# Altium footprint library Payload lib.PcbLib: 12 footprints
Each footprint in its own frame and in the unit in brackets; x right, y up, seen from the top. Pads: shape width x height; smd on the part's side, far side on the other; paste and mask are expansions set on the pad; w line width, h text height; cw(c..) or ccw(c..) is an arc to the next point about the centre after c.
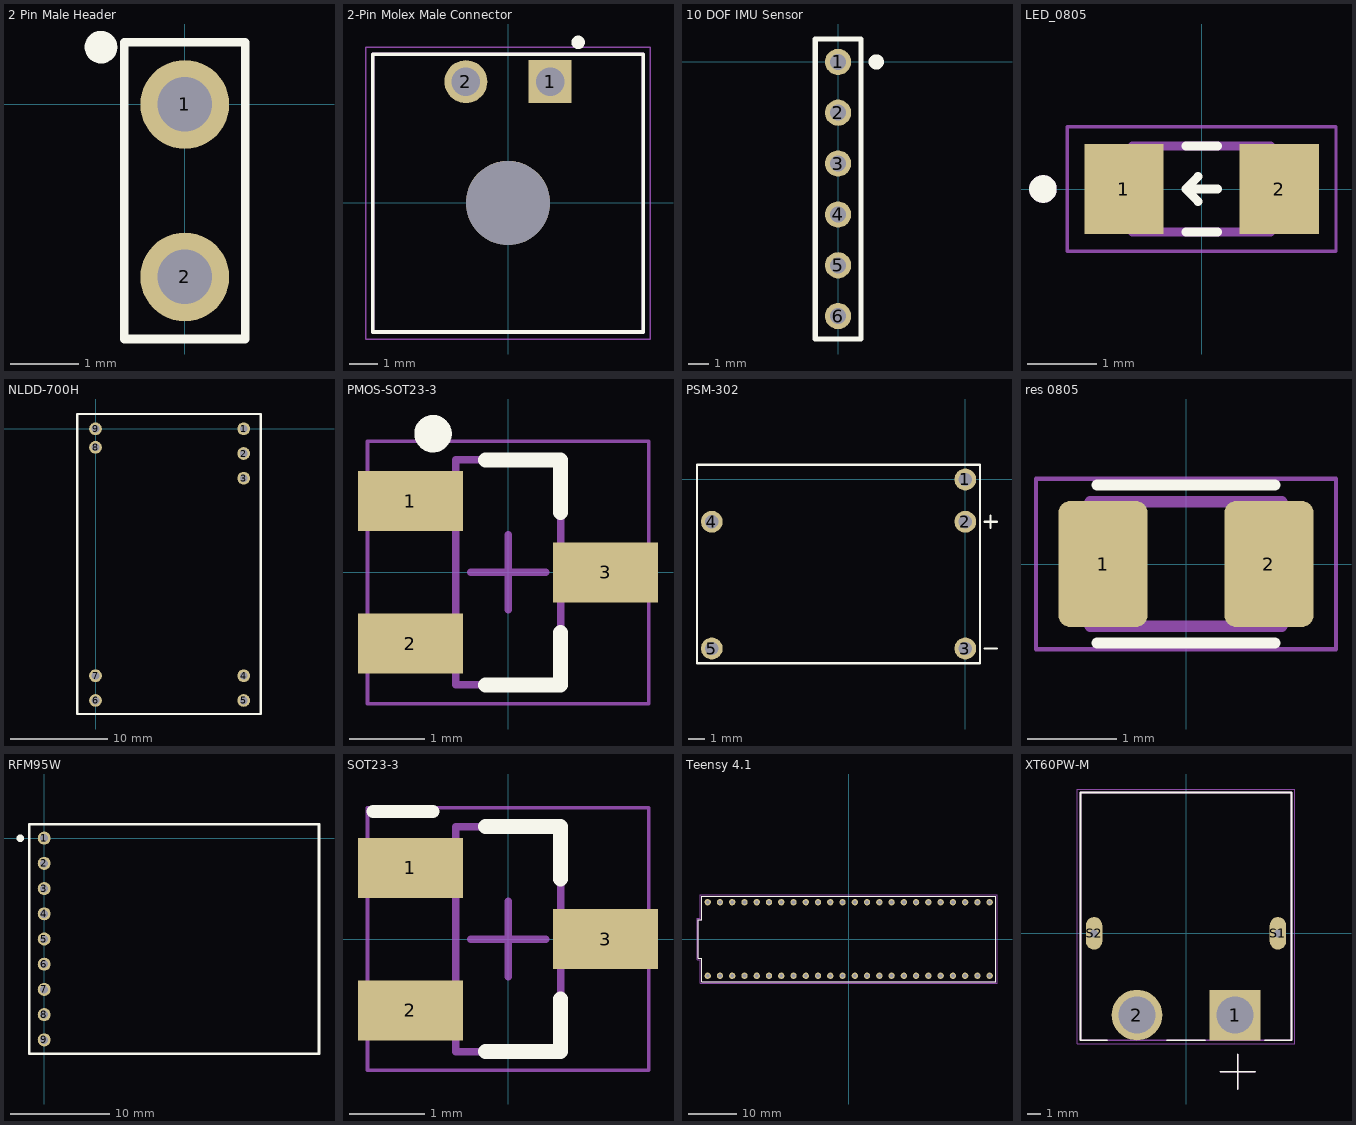
[diagram p0: the footprints below, top view; thin cyan lines are the x and y axes]

## 2 Pin Male Header [mm]
pads (2):
  round 1.308 hole 0.8: 1(0,0) 2(0,-2.54)
Top Overlay:
  circle w0.24: c-1.234,0.843 r0.12
  lines w0.127: -0.889,-3.454 0.889,-3.454 0.889,-2.242 0.889,-0.425 0.889,0.914 -0.889,0.914 -0.889,-3.454
3D body "2-Pin Header - Male - 2.54mm.step": height 8.89, standoff -3.05, extent -1.321,-3.835 1.219,1.245

## 2-Pin Molex Male Connector [mm]
pads (3):
  rect 1.53x1.53 hole 1.02: 1(1.5,4.32)
  round 1.53 hole 1.02: 2(-1.5,4.32)
  round 3 hole 3 unplated: ""(0,0)
Top Overlay:
  circle w0.24: c2.5,5.72 r0.12
  lines w0.127: -4.825,-4.6 4.825,-4.6 4.825,5.3 -4.825,5.3 -4.825,-4.6
Mechanical 13:
  lines w0.127: -4.825,-4.6 4.825,-4.6 4.825,5.3 -4.825,5.3 -4.825,-4.6
Mechanical 15:
  lines w0.05: -5.075,-4.85 -5.075,5.55 5.075,5.55 5.075,-4.85 -5.075,-4.85
3D body "436500200.stp": height 5.06, standoff -3.81, extent -4.849,-4.569 4.801,5.331

## 10 DOF IMU Sensor [mm]
pads (6):
  round 1.308 hole 0.8: 1(0,0) 2(0,-2.54) 3(0,-5.08) 4(0,-7.62) 5(0,-10.16) 6(0,-12.7)
Top Overlay:
  circle w0.508: c1.905,0 r0.127
  lines w0.254: -1.143,-13.843 -1.143,-9.906 -1.143,-3.048 -1.143,1.143 1.143,1.143 1.143,-13.843 -1.143,-13.843

## LED_0805 [mm]
pads (2):
  rect 1.15x1.3 smd: 1(-1.125,0) 2(1.125,0)
Top Overlay:
  circle w0.2: c-2.3,0 r0.1
  lines w0.127: -0.23,-0.625 0.23,-0.625 ; -0.23,0.625 0.23,0.625 ; -0.05,-0.18 -0.23,0 ; -0.05,0.18 -0.23,0 ; 0.23,0 -0.23,0
Mechanical 13:
  circle w0.2: c-2.3,0 r0.1
  lines w0.127: -1,-0.625 1,-0.625 1,0.625 -1,0.625 -1,-0.625
Mechanical 15:
  lines w0.05: -1.95,-0.9 1.95,-0.9 1.95,0.9 -1.95,0.9 -1.95,-0.9
3D body "APT1608.sldprt": height 0.74, standoff -0.01, extent -0.81,-0.4 0.801,0.4

## NLDD-700H [mm]
pads (9):
  round 1.308 hole 0.8: 1(15.24,0) 2(15.24,-2.54) 3(15.24,-5.08) 4(15.24,-25.4) 5(15.24,-27.94) 6(0,-27.94) 7(0,-25.4) 8(0,-1.905) 9(0,0)
Top Overlay:
  lines w0.254: -1.905,-29.337 -1.905,1.524 3.08,1.524 12.033,1.524 17.018,1.524 17.018,-7.112 17.018,-21.59 17.018,-29.337 -1.905,-29.337

## PMOS-SOT23-3 [mm]
pads (3):
  rect 1.4x0.8 smd: 1(-1.3,0.95) 2(-1.3,-0.95) 3(1.3,0)
Top Overlay:
  circle w0.25: c-1,1.85 r0.125
  lines w0.2: -0.3,-1.5 0.7,-1.5 0.7,-0.8 ; -0.3,1.5 0.7,1.5 0.7,0.8
Mechanical 13:
  lines w0.1: -0.7,-1.5 -0.7,1.5 0.7,1.5 0.7,-1.5 -0.7,-1.5
Mechanical 15:
  lines w0.05: -1.875,-1.75 -1.875,1.75 1.875,1.75 1.875,-1.75 -1.875,-1.75
  lines w0.1: -0.5,0 0.5,0 ; 0,-0.5 0,0.5
3D body "SOT23127P600-8N.step": height 1.1, standoff 0, extent -1.25,-1.475 1.25,1.525

## PSM-302 [mm]
pads (5):
  round 1.308 hole 0.8: 1(0,0) 2(0,-2.54) 3(0,-10.16) 4(-15.24,-2.54) 5(-15.24,-10.16)
Top Overlay:
  lines w0.127: 1.143,-10.16 1.905,-10.16 ; 1.143,-2.54 1.905,-2.54 ; 1.524,-2.921 1.524,-2.159 ; -16.129,-11.049 0.889,-11.049 0.889,0.889 -16.129,0.889 -16.129,-11.049

## res 0805 [mm]
pads (2):
  rrect25% 1x1.42 smd: 1(-0.935,0) 2(0.935,0)
Top Overlay:
  lines w0.127: -1,-0.89 1,-0.89 ; -1,0.89 1,0.89
Mechanical 13:
  lines w0.127: -1.08,-0.7 -1.08,0.7 1.08,0.7 1.08,-0.7 -1.08,-0.7
Mechanical 15:
  lines w0.05: -1.69,-0.96 -1.69,0.96 1.69,0.96 1.69,-0.96 -1.69,-0.96
3D body "resistor-0603.step": height 0.48, standoff -0.03, extent -0.775,-0.404 0.825,0.455

## RFM95W [mm]
pads (9):
  round 1.308 hole 0.8: 1(0,0) 2(0,-2.54) 3(0,-5.08) 4(0,-7.62) 5(0,-10.16) 6(0,-12.7) 7(0,-15.24) 8(0,-17.78) 9(0,-20.32)
Top Overlay:
  circle w0.508: c-2.413,0 r0.127
  lines w0.254: -1.524,-21.717 27.686,-21.717 27.686,1.397 -1.524,1.397 -1.524,0.889 -1.524,-21.717

## SOT23-3 [mm]
pads (3):
  rect 1.4x0.8 smd: 1(-1.3,0.95) 2(-1.3,-0.95) 3(1.3,0)
Top Overlay:
  lines w0.178: -1.8,1.7 -1,1.7
  lines w0.2: -0.3,-1.5 0.7,-1.5 0.7,-0.8 ; -0.3,1.5 0.7,1.5 0.7,0.8
Mechanical 1:
  lines w0.1: -0.7,-1.5 0.7,-1.5 0.7,1.5 -0.7,1.5 -0.7,-1.5
Mechanical 15:
  lines w0.05: -1.875,-1.75 1.875,-1.75 1.875,1.75 -1.875,1.75 -1.875,-1.75
  lines w0.1: -0.5,0 0.5,0 ; 0,-0.5 0,0.5
3D body "SOT23127P600-8N.step": height 1.1, standoff 0, extent -1.25,-1.5 1.25,1.5

## Teensy 4.1 [mm]
height 4.07
pads (48):
  round 1.308 hole 0.8: 1(-29.21,-7.62) 2(-26.67,-7.62) 3(-24.13,-7.62) 4(-21.59,-7.62) 5(-19.05,-7.62) 6(-16.51,-7.62) 7(-13.97,-7.62) 8(-11.43,-7.62) 9(-8.89,-7.62) 10(-6.35,-7.62) 11(-3.81,-7.62) 12(-1.27,-7.62) 13(1.27,-7.62) 14(3.81,-7.62) 15(6.35,-7.62) 16(8.89,-7.62) 17(11.43,-7.62) 18(13.97,-7.62) 19(16.51,-7.62) 20(19.05,-7.62) 21(21.59,-7.62) 22(24.13,-7.62) 23(26.67,-7.62) 24(29.21,-7.62) 25(29.21,7.62) 26(26.67,7.62) 27(24.13,7.62) 28(21.59,7.62) 29(19.05,7.62) 30(16.51,7.62) 31(13.97,7.62) 32(11.43,7.62) 33(8.89,7.62) 34(6.35,7.62) 35(3.81,7.62) 36(1.27,7.62) 37(-1.27,7.62) 38(-3.81,7.62) 39(-6.35,7.62) 40(-8.89,7.62) 41(-11.43,7.62) 42(-13.97,7.62) 43(-16.51,7.62) 44(-19.05,7.62) 45(-21.59,7.62) 46(-24.13,7.62) 47(-26.67,7.62) 48(-29.21,7.62)
Top Overlay:
  lines w0.127: -31.18,-4.03 -31.18,4.03 -30.48,4.03 -30.48,8.89 30.48,8.89 30.48,-8.89 -30.48,-8.89 -30.48,-4.03 -31.18,-4.03
Mechanical 13:
  lines w0.127: -31.18,-4.03 -31.18,4.03 -30.48,4.03 -30.48,8.89 30.48,8.89 30.48,-8.89 -30.48,-8.89 -30.48,-4.03 -31.18,-4.03
  text "Teensy 4.1" at -3.683,1.397 h1.27
Mechanical 15:
  lines w0.05: -31.43,-4.28 -31.43,4.28 -30.73,4.28 -30.73,9.14 30.73,9.14 30.73,-9.14 -30.73,-9.14 -30.73,-4.28 -31.43,-4.28
3D body "step_temp.STEP": height 7.15, standoff -6.7, extent -31.211,-8.89 30.449,8.89

## XT60PW-M [mm]
height 8.4
pads (4):
  rect 3.716x3.716 hole 2.7: 1(3.6,-6)
  round 3.716 hole 2.7: 2(-3.6,-6)
  oval 1.2x2.4 hole 0.6 square: S1(6.75,0) S2(-6.75,0)
Top Overlay:
  lines w0.127: -5.778,-7.85 -7.75,-7.85 -7.75,10.35 7.75,10.35 7.75,-7.85 5.778,-7.85 ; -1.422,-7.85 1.422,-7.85 ; 2.54,-10.16 3.81,-10.16 ; 3.81,-11.43 3.81,-10.16 ; 3.81,-8.89 3.81,-10.16 ; 5.08,-10.16 3.81,-10.16
Mechanical 13:
  lines w0.127: 2.54,-10.16 3.81,-10.16 ; 3.81,-11.43 3.81,-10.16 ; 3.81,-8.89 3.81,-10.16 ; 5.08,-10.16 3.81,-10.16 ; -7.75,-7.85 -7.75,10.35 7.75,10.35 7.75,-7.85 -7.75,-7.85
Mechanical 15:
  lines w0.05: -8,-8.11 -8,10.6 8,10.6 8,-8.11 -8,-8.11
3D body "step_temp.STEP": height 8.4, standoff -2.55, extent -7.75,-7.85 7.75,10.35